# EAGLE library part USB1T11A (library balto)
USB1T11A - USB Transceiver
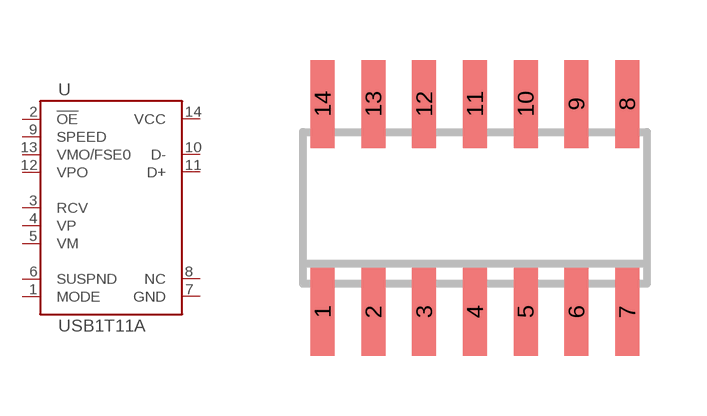
[diagram p56: symbol with the pads of SOIC14; footprint SOIC14]

Designator prefix U

## USB1T11A  [SOIC14]
1  MODE
2  !OE
3  RCV
4  VP
5  VM
6  SUSPND
7  GND
8  NC
9  SPEED
10  D-
11  D+
12  VPO
13  VMO/FSE0
14  VCC

## Footprint SOIC14 (pad centres in mm)
smd 0.6 x 2.2: 1 -3.81,-2.6; 2 -2.54,-2.6; 3 -1.27,-2.6; 4 0,-2.6; 5 1.27,-2.6; 6 2.54,-2.6; 7 3.81,-2.6; 8 3.81,2.6; 9 2.54,2.6; 10 1.27,2.6; 11 0,2.6; 12 -1.27,2.6; 13 -2.54,2.6; 14 -3.81,2.6